# Altium schematic symbol library AltiumLibraryDDT.SchLib: 81 symbols
Pins are listed as number, name and electrical type; pins without a type are passive.

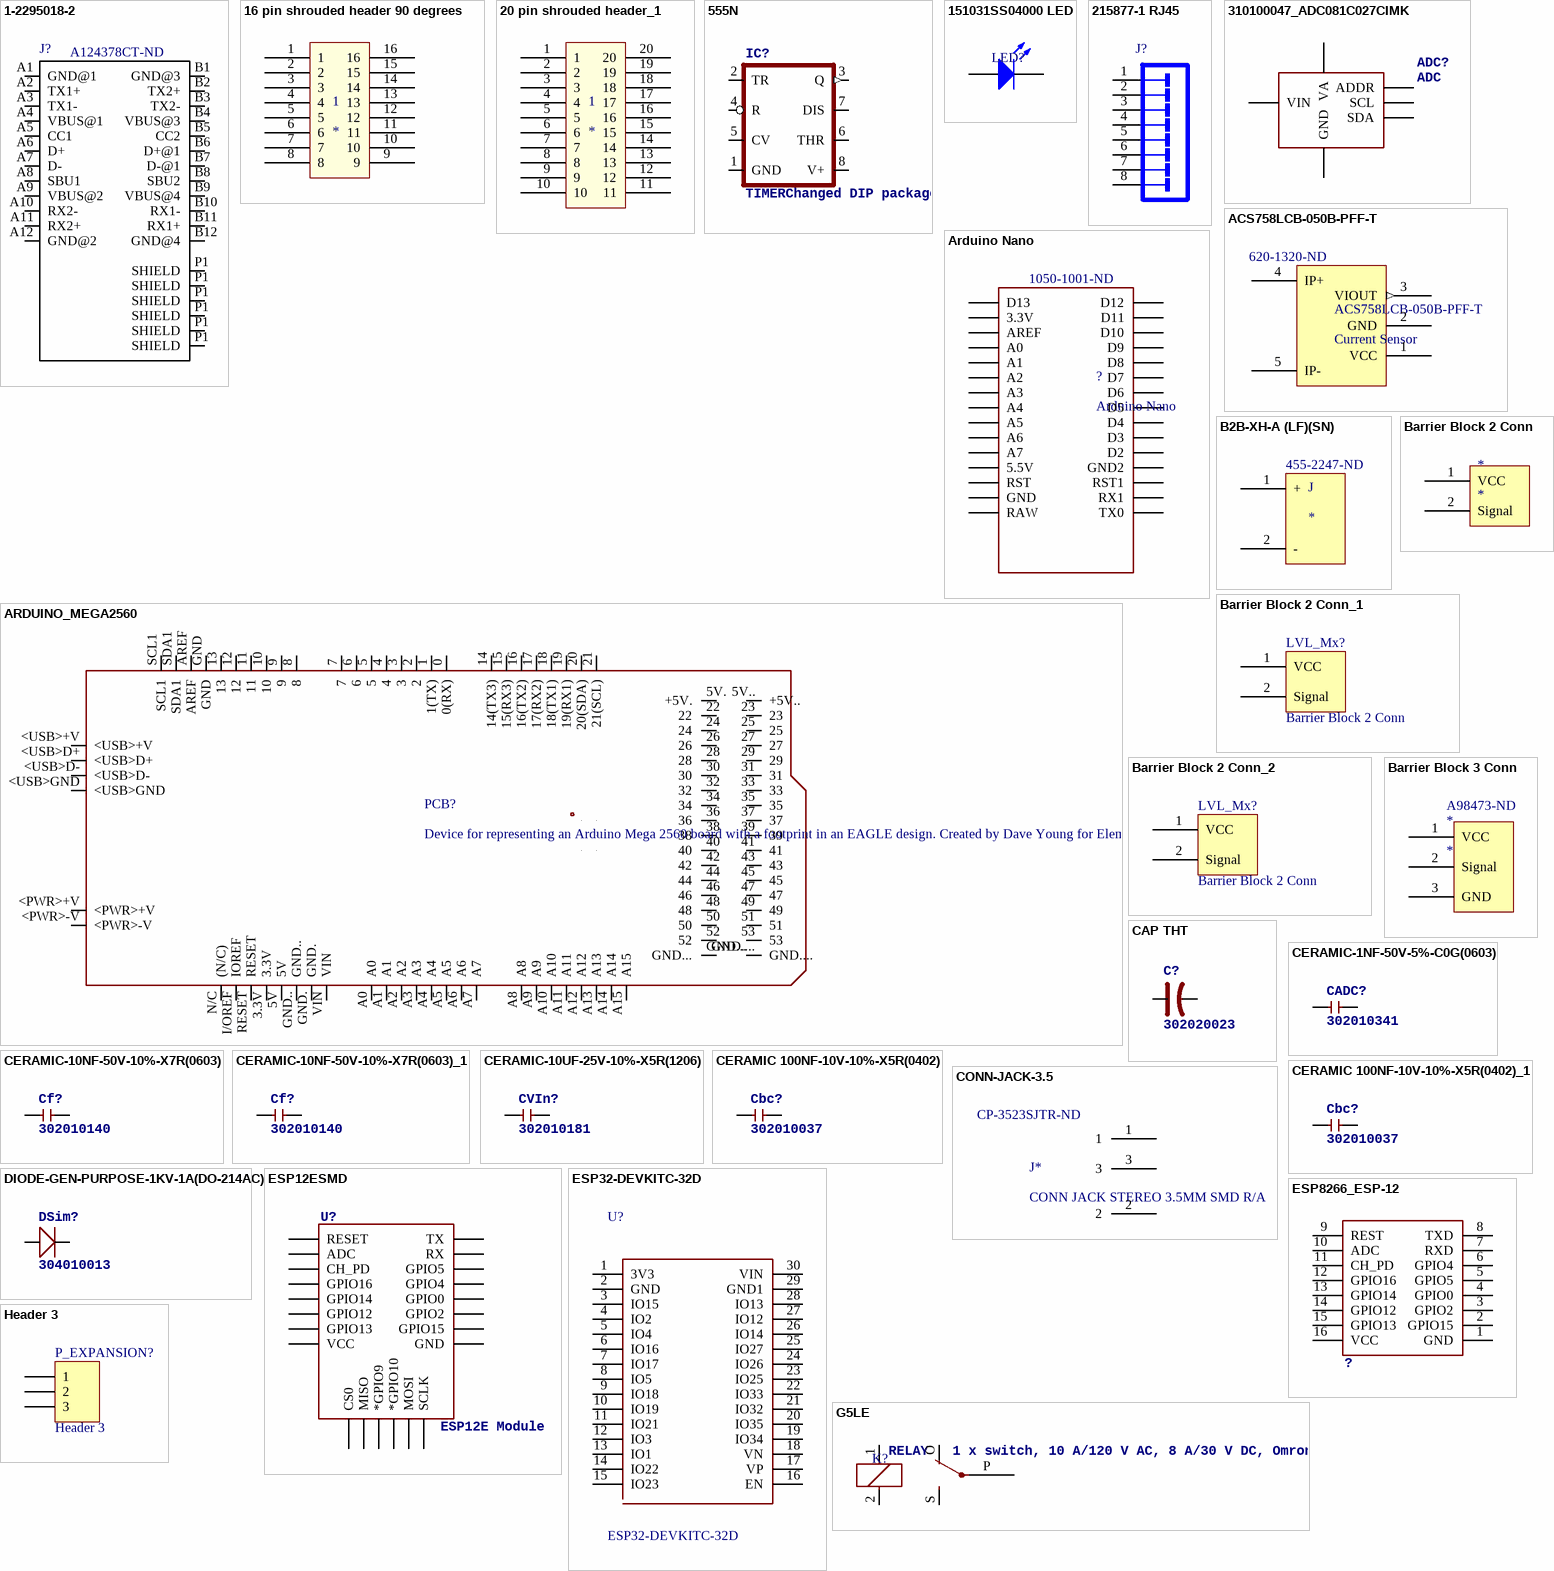
[diagram p0: symbols 1-2295018-2 to Header 3]

## 1-2295018-2
designator J?, comment Supplier Part Number 1: A124378CT-ND  (hidden comment: 1-2295018-2 USB C Connector)
Conn USB Type C RCP 12 POS Solder RA SMD 12 Terminal 1 Port T/R; MF: TE Connectivity; Availability: Unavailable; SnapEDA_Link: https://www.snapeda.com/parts/1-2295018-2/TE%20Connectivity%20AMP%20Connectors/view-part/?ref=snap; Price: None; TE_purchase_URL: https://www.te.com/usa-en/product-1-2295018-2.html?te_bu=Cor&te_type=disp&te_campaign=seda_glo_cor-seda-global-disp-prtnr-fy19-seda-model-bom-cta_sma-317_1&elqCampaignId=32493; Package: None; MP: 1-2295018-2; Value: *; Supplier 1: Digi-Key
footprint TE_1-2295018-2_1-2295018-2(Primary)
pins: A1 GND@1, A2 TX1+, A3 TX1-, A4 VBUS@1, A5 CC1, A6 D+, A7 D-, A8 SBU1, A9 VBUS@2, A10 RX2-, A11 RX2+, A12 GND@2, B1 GND@3, B2 TX2+, B3 TX2-, B4 VBUS@3, B5 CC2, B6 D+@1, B7 D-@1, B8 SBU2, B9 VBUS@4, B10 RX1-, B11 RX1+, B12 GND@4, P1 SHIELD, P1 SHIELD, P1 SHIELD, P1 SHIELD, P1 SHIELD, P1 SHIELD

## 16 pin shrouded header 90 degrees
designator 1
footprint 16 pin shrouded box 90 degrees
pins: 1, 2, 3, 4, 5, 6, 7, 8, 9, 10, 11, 12, 13, 14, 15, 16

## 20 pin shrouded header_1
designator 1
footprint 20 Pin Box Header .1"Sp Straight
pins: 1, 2, 3, 4, 5, 6, 7, 8, 9, 10, 11, 12, 13, 14, 15, 16, 17, 18, 19, 20

## 555N
designator IC?, comment TIMERChanged DIP package to have round (not oval) pin pads    http://www.ladyada.net/library/pcb/eaglelibrary.html
footprint DIL08-ROUND
pins: 1 GND (power), 2 TR, 3 Q (out), 4 R, 5 CV, 6 THR, 7 DIS, 8 V+ (power)

## 151031SS04000 LED
designator LED?
THT LED round mono-color color lens, WL-TMRW, Super Red; PartNumber: 151031SS04000; PackageReference: Type 3mm; Emitting color: Super Red; ComponentLink1Description: Manufacturer URL; ComponentLink1URL: http://www.we-online.com; ComponentLink2Description: Datasheet; ComponentLink2URL: http://katalog.we-online.de/pbs/datasheet/7448042001.pdfhttp://katalog.we-online.de/pbs/datasheet/7448042001.pdfhttp://katalog.we-online.de/pbs/datasheet/7448042001.pdfhttp://katalog.we-online.de/pbs/datasheet/151031SS04000.pdf
footprint LED Type 3mm (THT, LED-3mm, 2pin- Body 4.15mm(max))
pins: 1 K, 2 A

## 215877-1 RJ45
designator J?
Female Header, Pitch 2.54 mm, 2 x 4 Position, Height 11.5 mm, Tail Length 3 mm, -40 to 105 degC, RoHS, Tape and Reel; Dynamic Catalog: Modular Jacks; Other Names: A105009CT; Number of Ports: 1; Connector Type: Jack; LED Color: Does Not Contain LED; Ratings: Cat3; Number of Positions/Contacts: 8p8c (RJ45, Ethernet); 3D Model: 215877-1.pdf; Tab Direction: Down; Shielding: Unshielded; DatasheetVersion: Rev. AE; PackageReference: THD; Supplier 1: Digi-Key; Supplier Part Number 1: A105009TR-ND; Supplier 2: Digi-Key; Supplier Part Number 2: A105009CT-ND; Features: Board Lock; Packaging: Cut Tape (CT); Termination: Solder; Family: Modular Connectors - Jacks; Contact Finish: Gold; Housing Material: Polybutylene Terephthalate (PBT); RoHS Information: 215877-1 Statement of Compliance; Mounting Type: Through Hole; Contact Material: Phosphor Bronze; Orientation: 90° Angle (Right); Standard Package: 1; Number of Rows: 1; Category: Connectors, Interconnects; ComponentLink1Description: Manufacturer URL; ComponentLink1URL: http://www.te.com; ComponentLink2Description: Datasheet; ComponentLink2URL: https://datasheet.ciiva.com/16310/215877-1-16310656.pdf
footprint TECO-215877-1_V_RJ45 (TH, 8-Leads, Body 18.1x15.2mm RJ45)
pins: 1, 2, 3, 4, 5, 6, 7, 8

## 310100047_ADC081C027CIMK
designator ADC?, comment ADC
footprint SOT236
pins: 1 VA (power), 2 GND (power), 3 VIN, 4 ADDR, 5 SCL, 6 SDA

## ACS758LCB-050B-PFF-T
designator ACS758LCB-050B-PFF-T, comment Current Sensor  Supplier Part Number 1: 620-1320-ND
Thermally Enhanced, Fully Integrated, Hall Effect-Based  Linear Current Sensor IC with 100 µΩ Current Conductor; Manufacturer: Allegro MicroSystems, LLC; Manufacturer Part Number: ACS758LCB-050B-PFF-T; For Measuring: AC/DC; Sensor Type: Hall Effect, Open Loop; Current - Sensing: 50A; Number of Channels: 1; Output: Ratiometric, Voltage; Sensitivity: 40mV/A; Frequency: DC ~ 120kHz; Linearity: ±1%; Accuracy: ±2%; Voltage - Supply: 3 V ~ 5.5 V; Response Time: 4µs; Current - Supply (Max): 13.5mA; Polarization: Bidirectional; Supplier 1: Digi-Key; RoHS: RoHS Compliant; Category: Sensors, Transducers; Stock 1: 7507; Pricing 1: 1=7.98, 5=7, 10=6.3, 25=5.6, 50=5.18, 100=4.48, 500=4.2, 1000=3.92, 5000=3.724 (USD); Packaging: Tube; Operating Temperature: -40°C ~ 150°C; Mounting Type: Through Hole; Package / Case: 5-CB Formed Leads, PFF; ComponentLink1URL: http://www.allegromicro.com/en/Products/Part_Numbers/0758/0758.pdf; ComponentLink1Description: http://www.allegromicro.com/en/Products/Part_Numbers/0758/0758.pdf
footprint ACS758LCB-050B-PFF-T
pins: 1 VCC (power), 2 GND (power), 3 VIOUT (out), 4 IP+ (power), 5 IP- (power)

## Arduino Nano
designator ?  Supplier Part Number 1: 1050-1001-ND
Manufacturer Part Number: A000005; Board Type: Evaluation Platform; Core Processor: AVR; For Use With/Related Products: ATmega328; Contents: Board(s); Supplier 1: Digi-Key; Manufacturer: Arduino; RoHS: RoHS Compliant; Category: Programmers, Development Systems; Stock 1: 0; Pricing 1: 1=0 (USD); Type: MCU 8-Bit; Operating System: -; Platform: Arduino Nano; Mounting Type: Fixed; ComponentLink1URL: http://media.digikey.com/pdf/Data%20Sheets/Arduino%20PDFs/A000005.pdf; ComponentLink1Description: http://media.digikey.com/pdf/Data%20Sheets/Arduino%20PDFs/A000005.pdf
footprint Arduino Nano (Arduino Nano, ATMEGA328)
pins: 3.3V, 5V 5.5V, A0, A1, A2, A3, A4, A5, A6, A7, AREF, D2, D3, D4, D5, D6, D7, D8, D9, D10, D11, D12, D13, GND, GND1 GND2, RAW, RST, RST1, RX1, TX0

## ARDUINO_MEGA2560
designator PCB?, comment Device for representing an Arduino Mega 2560 board with a footprint in an EAGLE design. Created by Dave Young for Element14. More EAGLE documentation at: http://www.element14.com/community/community/knode/cadsoft_eagle
footprint ARDUINO_MEGA2560
pins: 0 0(RX), 1 1(TX), 2, 3, 3.3V, 4, 5, 5V, 5V. +5V., 5V.. +5V.., 6, 7, 8, 9, 10, 11, 12, 13, 14 14(TX3), 15 15(RX3), 16 16(TX2), 17 17(RX2), 18 18(TX1), 19 19(RX1), 20 20(SDA), 21 21(SCL), 22, 23, 24, 25, 26, 27, 28, 29, 30, 31, 32, 33, 34, 35, 36, 37, 38, 39, 40, 41, 42, 43, 44, 45, 46, 47, 48, 49, 50, 51, 52, 53, +5V_, <PWR>+V, <PWR>-V, <USB>+V, <USB>D+, <USB>D-, <USB>GND, A0, A1, A2, A3, A4, A5, A6, A7, A8, A9, A10, A11, A12, A13, A14, A15, AREF, GND, GND., GND.., GND..., GND...., GND__, I/OREF IOREF, MISO, MOSI, N/C (N/C), RESET, RESET., SCK, SCL1, SDA1, VIN

## B2B-XH-A (LF)(SN)
designator J  Supplier Part Number 1: 455-2247-ND
Supplier 1: Digi-Key
footprint JST 2 PIN (BATTERY IN)
pins: 1 +, 2 -

## Barrier Block 2 Conn
designator *
footprint 2 Barrier Block - duplicate (A98472-ND)
pins: 1 VCC, 2 Signal

## Barrier Block 2 Conn_1
designator LVL_Mx?, comment Barrier Block 2 Conn
footprint 2 Barrier Block - duplicate (A98472-ND)
footprint 2 Barrier Block 5mm
pins: 1 VCC, 2 Signal

## Barrier Block 2 Conn_2
designator LVL_Mx?, comment Barrier Block 2 Conn
footprint 2 Barrier Block - duplicate (A98472-ND)
footprint 2 Barrier Block 5mm
pins: 1 VCC, 2 Signal

## Barrier Block 3 Conn
designator *  Supplier Part Number 1: A98473-ND
Supplier 1: Digi-Key
footprint 3 Barrier Block (A98473-ND)
pins: 1 VCC, 2 Signal, 3 GND

## CAP THT
designator C?, comment 302020023
footprint CAP TH
pins: 1 +, 2 -

## CERAMIC-1NF-50V-5%-C0G(0603)
designator CADC?, comment 302010341
MPN: GRM1885C1H102JA01D
footprint C0603
pins: 1, 2

## CERAMIC-10NF-50V-10%-X7R(0603)
designator Cf?, comment 302010140
MPN: CC0603KRX7R9BB103
footprint C0603
pins: 1, 2

## CERAMIC-10NF-50V-10%-X7R(0603)_1
designator Cf?, comment 302010140
MPN: CC0603KRX7R9BB103
footprint C0603
pins: 1, 2

## CERAMIC-10UF-25V-10%-X5R(1206)
designator CVIn?, comment 302010181
MPN: CC1206KKX5R8BB106
footprint C1206
pins: 1, 2

## CERAMIC 100NF-10V-10%-X5R(0402)
designator Cbc?, comment 302010037
MPN: CC0402KRX5R6BB104
footprint C0402
pins: 1, 2

## CERAMIC 100NF-10V-10%-X5R(0402)_1
designator Cbc?, comment 302010037
MPN: CC0402KRX5R6BB104
footprint C0402
pins: 1, 2

## CONN-JACK-3.5
designator J*, comment CONN JACK STEREO 3.5MM SMD R/A  Supplier Part Number 1: CP-3523SJTR-ND
3.50mm (0.141", 1/8", Mini Plug) - Headphone Phone Jack Stereo Connector Solder - SJ-3523-SMT; ComponentLink1Description: Digikey; ComponentLink1URL: https://www.digikey.com/product-detail/en/cui-inc/SJ-3523-SMT-TR/CP-3523SJTR-ND/281297; Supplier 1: Digi-Key
footprint SJ-3523-SMT-TR (3.50mm (0.141", 1/8", Mini Plug) - Headphone Phone Jack Stereo Connector Solder CP-3523SJTR-ND)
pins: 1, 2, 3

## DIODE-GEN-PURPOSE-1KV-1A(DO-214AC)
designator DSim?, comment 304010013
MPN: 1N4007
footprint DO-214AC
pins: 1 +, 2 -

## ESP12ESMD
designator U?, comment ESP12E Module
footprint ESP12E-SMD
pins: ADC, CH_PD, CS0, GND, GPIO0, GPIO2, GPIO4, GPIO5, GPIO9 *GPIO9, GPIO10 *GPIO10, GPIO12, GPIO13, GPIO14, GPIO15, GPIO16, MISO, MOSI, RESET, RXD0 RX, SCLK, TXD0 TX, VCC

## ESP32-DEVKITC-32D
designator U?
Eval Board For Esp-Wroom-32; MF: Espressif Systems; Availability: Unavailable; Package: None; SnapEDA_Link: https://www.snapeda.com/parts/ESP32-DEVKITC-32D/Espressif%20Systems/view-part/?ref=snap; MP: ESP32-DEVKITC-32D; Price: None; Value: *
footprint MODULE_ESP32-DEVKITV1
pins: 1 3V3, 2 GND, 3 IO15, 4 IO2, 5 IO4, 6 IO16, 7 IO17, 8 IO5, 9 IO18, 10 IO19, 11 IO21, 12 IO3, 13 IO1, 14 IO22, 15 IO23, 16 EN, 17 VP, 18 VN, 19 IO34, 20 IO35, 21 IO32, 22 IO33, 23 IO25, 24 IO26, 25 IO27, 26 IO14, 27 IO12, 28 IO13, 29 GND1, 30 VIN

## ESP8266_ESP-12
designator ?
footprint ESP8266-ESP12
pins: 1 GND, 2 GPIO15, 3 GPIO2, 4 GPIO0, 5 GPIO5, 6 GPIO4, 7 RXD, 8 TXD, 9 REST, 10 ADC, 11 CH_PD, 12 GPIO16, 13 GPIO14, 14 GPIO12, 15 GPIO13, 16 VCC

## G5LE
designator K?, comment RELAY   1 x switch, 10 A/120 V AC, 8 A/30 V DC, Omron
footprint G5LE
pins: 1, 2, O, P Common, S

## Header 3
designator P_EXPANSION?
Header, 3-Pin; LatestRevisionDate: 17-Jul-2002; LatestRevisionNote: Re-released for DXP Platform.; Publisher: Altium Limited
footprint HDR1X3 (Connector; Header; 3 Position)
signal-integrity model Connector
pins: 1, 2, 3

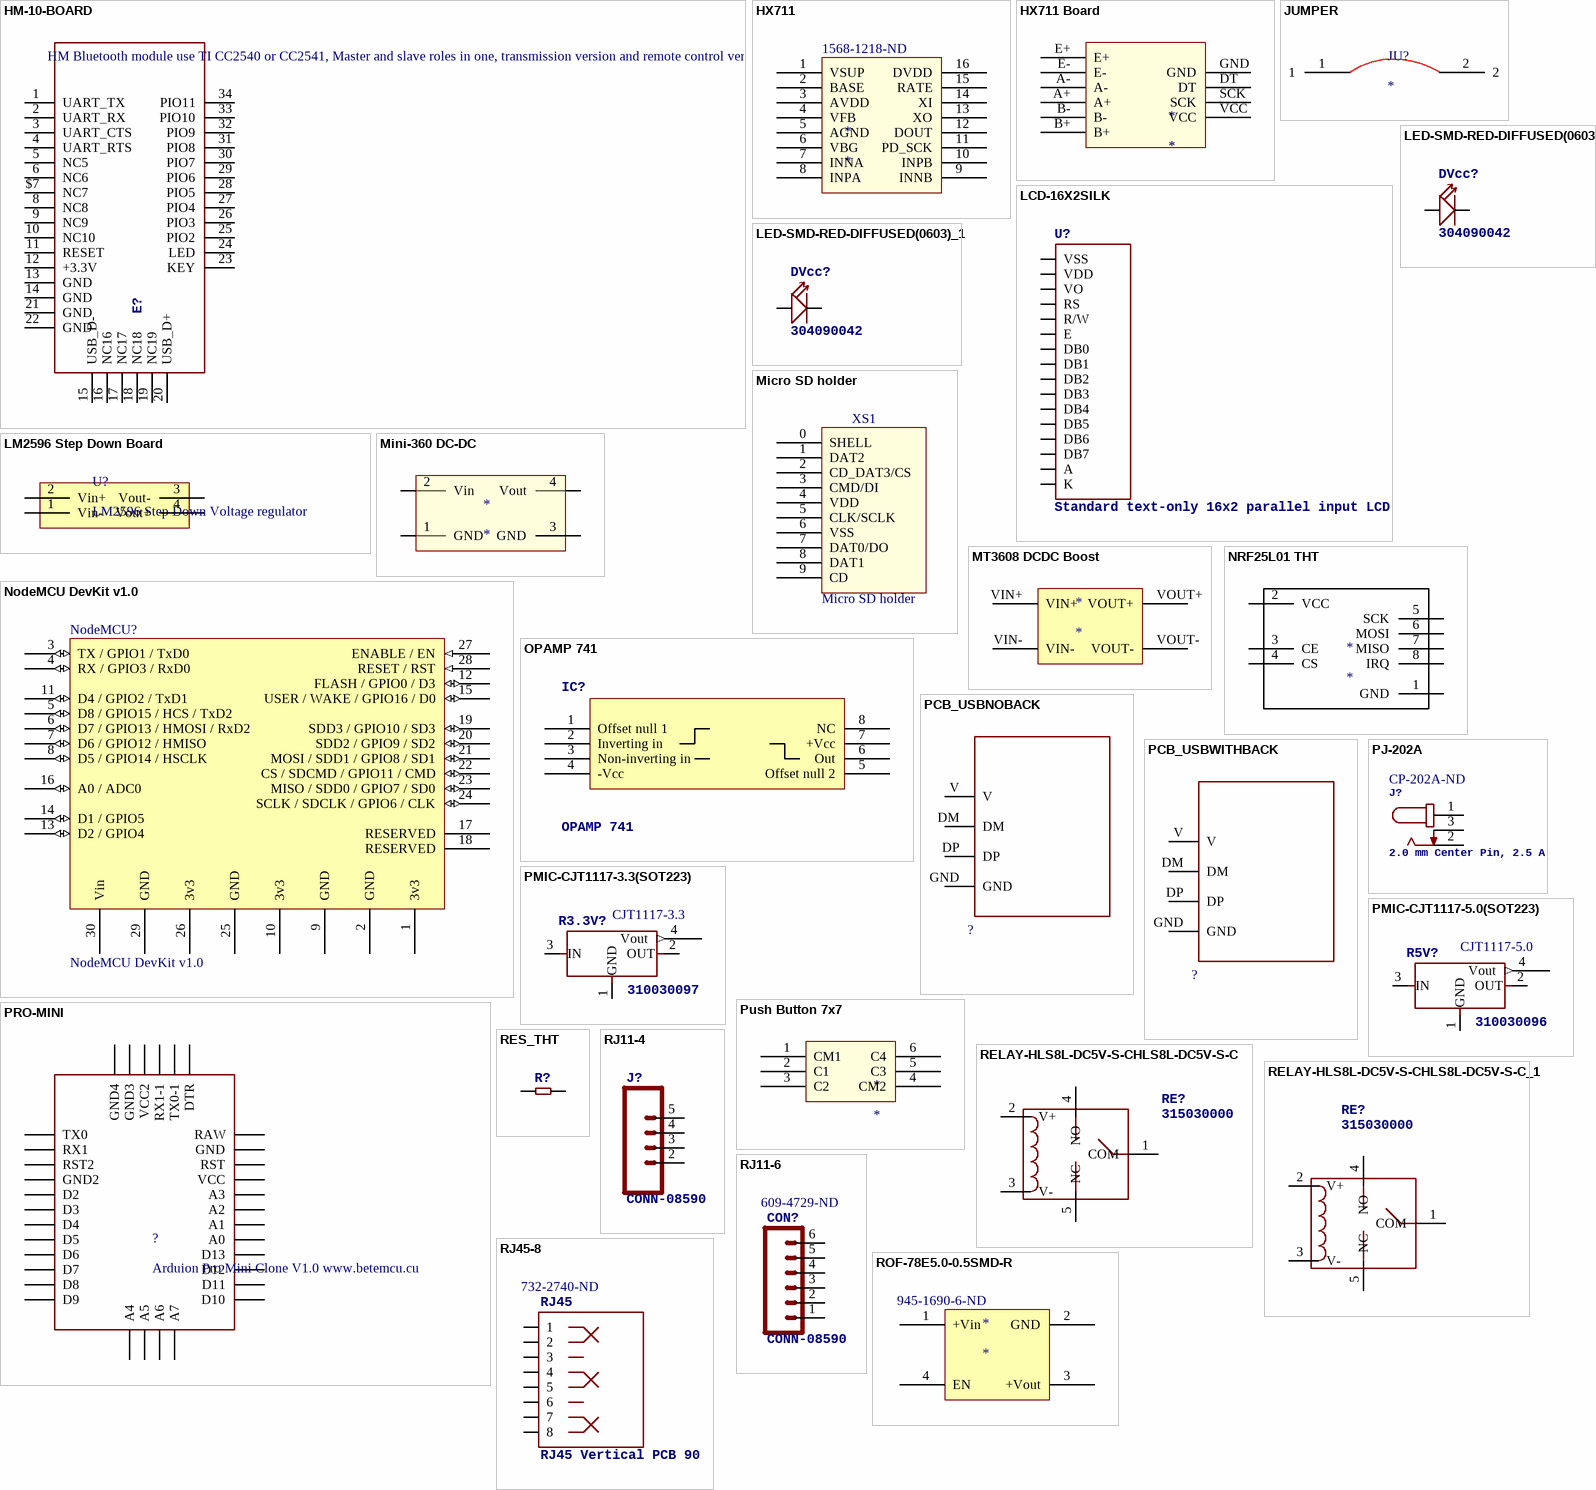
[diagram p1: symbols HM-10-BOARD to ROF-78E5.0-0.5SMD-R]

## HM-10-BOARD
designator E?, comment HM Bluetooth module use TI CC2540 or CC2541, Master and slave roles in one, transmission version and remote control version and PIO state acquisition functions in one, Support the AT command modify module parameters, Convenient and flexible.
footprint 26.9X13X2.2_BOARD
pins: 1 UART_TX, 2 UART_RX, 3 UART_CTS, 4 UART_RTS, 5 NC5, 6 NC6, 8 NC8, 9 NC9, 10 NC10, 11 RESET, 12 +3.3V, 13 GND, 14 GND, 15 USB_D-, 16 NC16, 17 NC17, 18 NC18, 19 NC19, 20 USB_D+, 21 GND, 22 GND, 23 KEY, 24 LED, 25 PIO2, 26 PIO3, 27 PIO4, 28 PIO5, 29 PIO6, 30 PIO7, 31 PIO8, 32 PIO9, 33 PIO10, 34 PIO11, $7 NC7

## HX711
designator *  Supplier Part Number 1: 1568-1218-ND
Supplier 1: Digi-Key
footprint SOP16L
pins: 1 VSUP, 2 BASE, 3 AVDD, 4 VFB, 5 AGND, 6 VBG, 7 INNA, 8 INPA, 9 INNB, 10 INPB, 11 PD_SCK, 12 DOUT, 13 XO, 14 XI, 15 RATE, 16 DVDD

## HX711 Board
designator *
footprint HX711 Board
pins: A+, A-, B+, B-, DT, E+, E-, GND, SCK, VCC

## JUMPER
designator JU?
footprint JUMPER 200mil (JUMPER for one layer PCB)
footprint JUMPER 400mil (JUMPER for one layer PCB)
footprint JUMPER 600mil (JUMPER for one layer PCB)
pins: 1, 2

## LCD-16X2SILK
designator U?, comment Standard text-only 16x2 parallel input LCD
footprint LCD-16X2
pins: 1 VSS (power), 2 VDD (power), 3 VO, 4 RS, 5 R/W, 6 E, 7 DB0, 8 DB1, 9 DB2, 10 DB3, 11 DB4, 12 DB5, 13 DB6, 14 DB7, 15 A (power), 16 K (power)

## LED-SMD-RED-DIFFUSED(0603)
designator DVcc?, comment 304090042
MPN: 19-217-R6C-AL1M2VY-3T
footprint LED-0603
pins: +, -

## LED-SMD-RED-DIFFUSED(0603)_1
designator DVcc?, comment 304090042
MPN: 19-217-R6C-AL1M2VY-3T
footprint LED-0603
pins: +, -

## LM2596 Step Down Board
designator U?, comment LM2596 Step Down Voltage regulator
footprint LM2596 DC-DC
pins: 1 Vin-, 2 Vin+, 3 Vout-, 4 Vout+

## Micro SD holder
designator XS1
footprint 112C-TBAR-R02
pins: 0 SHELL, 1 DAT2, 2 CD_DAT3/CS, 3 CMD/DI, 4 VDD, 5 CLK/SCLK, 6 VSS, 7 DAT0/DO, 8 DAT1, 9 CD

## Mini-360 DC-DC
designator *
footprint Mini-360 (DC-DC Power source)
pins: 1 GND (power), 2 Vin (power), 3 GND (power), 4 Vout (power)

## MT3608 DCDC Boost
designator *
footprint MT3608 (Step Up board)
pins: VIN+, VIN-, VOUT+, VOUT-

## NodeMCU DevKit v1.0
designator NodeMCU?
footprint NODEMCU
pins: 1 3v3 (power), 2 GND (power), 3 TX / GPIO1 / TxD0 (io), 4 RX / GPIO3 / RxD0 (io), 5 D8 / GPIO15 / HCS / TxD2 (io), 6 D7 / GPIO13 / HMOSI / RxD2 (io), 7 D6 / GPIO12 / HMISO (io), 8 D5 / GPIO14 / HSCLK (io), 9 GND (power), 10 3v3 (power), 11 D4 / GPIO2 / TxD1 (io), 12 FLASH / GPIO0 / D3 (io), 13 D2 / GPIO4 (io), 14 D1 / GPIO5 (io), 15 USER / WAKE / GPIO16 / D0 (io), 16 A0 / ADC0 (io), 17 RESERVED, 18 RESERVED, 19 SDD3 / GPIO10 / SD3 (io), 20 SDD2 / GPIO9 / SD2 (io), 21 MOSI / SDD1 / GPIO8 / SD1 (io), 22 CS / SDCMD / GPIO11 / CMD (io), 23 MISO / SDD0 / GPIO7 / SD0 (io), 24 SCLK / SDCLK / GPIO6 / CLK (io), 25 GND (power), 26 3v3 (power), 27 ENABLE / EN (in), 28 RESET / RST (in), 29 GND, 30 Vin

## NRF25L01 THT
designator *
footprint NRF25L01 THT
pins: 1 GND (power), 2 VCC (power), 3 CE, 4 CS, 5 SCK, 6 MOSI, 7 MISO, 8 IRQ

## OPAMP 741
designator IC?
footprint DIL08-ROUND
footprint DIL08-ROUND
pins: 1 Offset null 1, 2 Inverting in, 3 Non-inverting in, 4 -Vcc (power), 5 Offset null 2, 6 Out, 7 +Vcc (power), 8 NC

## PCB_USBNOBACK
designator ?
footprint PCB_USB_WBACK
pins: DM, DP, GND, V

## PCB_USBWITHBACK
designator ?
footprint PCB_USB_WBACK
pins: DM, DP, GND, V

## PJ-202A
designator J?, comment 2.0 mm Center Pin, 2.5 A, Right Angle, Through Hole, Kinked Pins, Dc Power Jack Connector  Supplier Part Number 1: CP-202A-ND
GateName_1: G$1; SymbolName_1: PJ-202A; MF: CUI Inc.; LibraryName: PJ-202A; DeviceSetName: PJ-202A; Package: CUI_PJ-202A; MP: PJ-202A; Availability: Unavailable; Package: None; Price: None; CUI_purchase_URL: https://www.cui.com/product/interconnect/dc-power-connectors/jacks/2.0-mm-center-pin/pj-202a?utm_source=snapeda.com&utm_medium=referral&utm_campaign=snapedaBOM; Supplier 1: Digi-Key
footprint CUI_PJ-202A (2.0 mm Center Pin, 2.5 A, Right Angle, Through Hole, Kinked Pins, Dc Power Jack Connector)
pins: 1, 2, 3

## PMIC-CJT1117-3.3(SOT223)
designator R3.3V?, comment 310030097  MPN: CJT1117-3.3
footprint SOT-223
pins: 1 GND, 2 OUT, 3 IN, 4 Vout (out)

## PMIC-CJT1117-5.0(SOT223)
designator R5V?, comment 310030096  MPN: CJT1117-5.0
footprint SOT-223
pins: 1 GND, 2 OUT, 3 IN, 4 Vout (out)

## PRO-MINI
designator ?, comment Arduion Pro Mini Clone V1.0 www.betemcu.cu
footprint PRO-MINI
pins: A0, A1, A2, A3, A4, A5, A6, A7, D2, D3, D4, D5, D6, D7, D8, D9, D10, D11, D12, D13, DTR, GND, GND1 GND2, GND2 GND4, GND3, RAW (power), RST, RST1 RST2, RX1, RX1-1, TX0, TX0-1, VCC, VCC1 VCC2

## Push Button 7x7
designator *
footprint Push Button 7x7 (7x7 SELF-LOCK BUTTON - 2mm DIP)
pins: 1 CM1, 2 C1, 3 C2, 4 CM2, 5 C3, 6 C4

## RELAY-HLS8L-DC5V-S-CHLS8L-DC5V-S-C
designator RE?, comment 315030000
footprint REY5-19.0X15.0X15.0MM
pins: 1 COM, 2 V+, 3 V-, 4 NO, 5 NC

## RELAY-HLS8L-DC5V-S-CHLS8L-DC5V-S-C_1
designator RE?, comment 315030000
footprint REY5-19.0X15.0X15.0MM
pins: 1 COM, 2 V+, 3 V-, 4 NO, 5 NC

## RES_THT
designator R?
footprint Res 1/4w
pins: 1, 2

## RJ11-4
designator J?, comment CONN-08590
RJ11 4P4C; SF_ID: PRT-00132; PROD_ID: CONN-08590
footprint RJ11-6 - 4pin (54601-906WPLF CONN MOD JACK 6P6C R/A UNSHLD)
pins: 2, 3, 4, 5

## RJ11-6
designator CON?, comment CONN-08590  Supplier Part Number 1: 609-4729-ND
RJ11 6P6C; SF_ID: PRT-00132; PROD_ID: CONN-08590; Supplier 1: Digi-Key
footprint RJ11-6
pins: 1, 2, 3, 4, 5, 6

## RJ45-8
designator RJ45, comment RJ45 Vertical PCB 90  Supplier Part Number 1: 732-2740-ND
Wurth Electronics 615008138021; PROD_ID: 615008138021; Supplier 1: Digi-Key
footprint RJ45-8
pins: 1, 2, 3, 4, 5, 6, 7, 8

## ROF-78E5.0-0.5SMD-R
designator *  Supplier Part Number 1: 945-1690-6-ND
Manufacturer: Recom Power; Manufacturer Part Number: ROF-78E5.0-0.5SMD-R; Power (Watts) - Manufacture Series: 3W; Number of Outputs: 1; Voltage - Input (Min): 9V; Voltage - Input (Max): 36V; Voltage - Output 1: 5V; Current - Output (Max): 500mA; Efficiency: 87%; Supplier 1: Digi-Key; RoHS: RoHS Compliant; Category: Power Supplies - Board Mount; Stock 1: 3805; Pricing 1: 1=3.38, 5=3.338, 10=3.29, 25=3.196, 50=3.102, 100=3.008, 250=2.914 (USD); Packaging: Digi-Reel®; Type: Non-Isolated PoL Module; Voltage - Output 2: -; Voltage - Output 3: -; Voltage - Isolation: -; Applications: ITE (Commercial); Features: SCP; Mounting Type: Surface Mount; Package / Case: 4-SMD Module; Size / Dimension: 0.53" L x 0.49" W x 0.18" H (13.5mm x 12.5mm x 4.5mm); Operating Temperature: -40°C ~ 75°C; Power (Watts) - Max: 3W; ComponentLink1URL: http://www.recom-power.com/pdf/Innoline/ROF-78Exx-0.5.pdf; ComponentLink1Description: http://www.recom-power.com/pdf/Innoline/ROF-78Exx-0.5.pdf
footprint ROF-78E5.0-0.5SMD-R (SMD Switching Regulator)
pins: 1 +Vin (power), 2 GND (power), 3 +Vout (power), 4 EN (power)

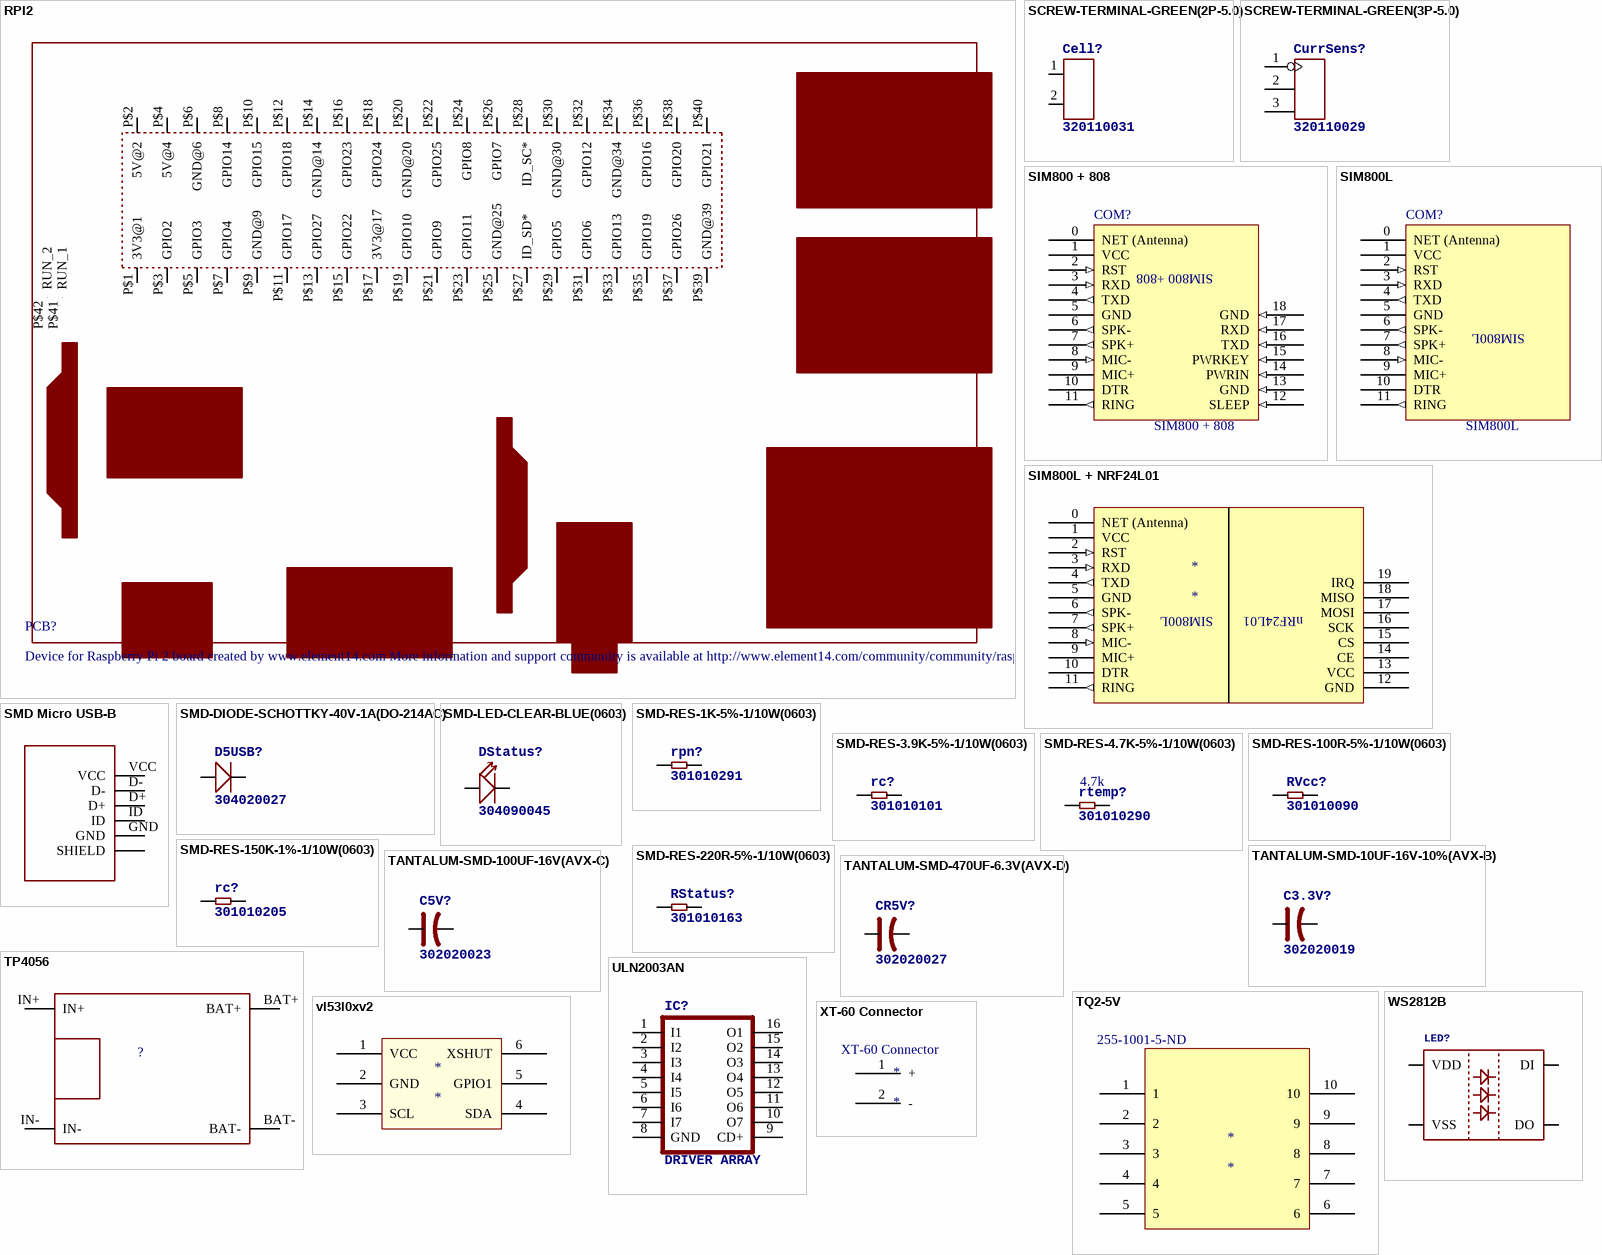
[diagram p2: symbols RPI2 to XT-60 Connector]

## RPI2
designator PCB?, comment Device for Raspberry Pi 2 board created by www.element14.com More information and support community is available at http://www.element14.com/community/community/raspberry-pi/raspberrypi2
footprint RPI2
pins: P$1 3V3@1, P$2 5V@2, P$3 GPIO2, P$4 5V@4, P$5 GPIO3, P$6 GND@6, P$7 GPIO4, P$8 GPIO14, P$9 GND@9, P$10 GPIO15, P$11 GPIO17, P$12 GPIO18, P$13 GPIO27, P$14 GND@14, P$15 GPIO22, P$16 GPIO23, P$17 3V3@17, P$18 GPIO24, P$19 GPIO10, P$20 GND@20, P$21 GPIO9, P$22 GPIO25, P$23 GPIO11, P$24 GPIO8, P$25 GND@25, P$26 GPIO7, P$27 ID_SD*, P$28 ID_SC*, P$29 GPIO5, P$30 GND@30, P$31 GPIO6, P$32 GPIO12, P$33 GPIO13, P$34 GND@34, P$35 GPIO19, P$36 GPIO16, P$37 GPIO26, P$38 GPIO20, P$39 GND@39, P$40 GPIO21, P$41 RUN_1, P$42 RUN_2

## SCREW-TERMINAL-GREEN(2P-5.0)
designator Cell?, comment 320110031
footprint H2-5.0-10.5X8.0MM
pins: 1, 2

## SCREW-TERMINAL-GREEN(3P-5.0)
designator CurrSens?, comment 320110029
footprint H3-5.0-15.5X8.0MM
pins: 1 P$1, 2 P$2, 3 P$3

## SIM800 + 808
designator COM?
footprint SIM800 + bk-808
pins: 0 NET (Antenna) (hiz), 1 VCC (power), 2 RST (in), 3 RXD (in), 4 TXD (out), 5 GND (hiz), 6 SPK- (out), 7 SPK+ (out), 8 MIC- (in), 9 MIC+ (hiz), 10 DTR (power), 11 RING (out), 12 SLEEP (in), 13 GND (in), 14 PWRIN (in), 15 PWRKEY (in), 16 TXD (in), 17 RXD (in), 18 GND (in)
text: SIM800 +808

## SIM800L
designator COM?
footprint SIM800L
pins: 0 NET (Antenna) (hiz), 1 VCC (power), 2 RST (in), 3 RXD (in), 4 TXD (out), 5 GND (hiz), 6 SPK- (out), 7 SPK+ (out), 8 MIC- (in), 9 MIC+ (hiz), 10 DTR (power), 11 RING (out)

## SIM800L + NRF24L01
designator *
footprint SIM800L+NRF24L01
pins: 0 NET (Antenna) (hiz), 1 VCC (power), 2 RST (in), 3 RXD (in), 4 TXD (out), 5 GND (hiz), 6 SPK- (out), 7 SPK+ (out), 8 MIC- (in), 9 MIC+ (hiz), 10 DTR (power), 11 RING (out), 12 GND (power), 13 VCC (power), 14 CE (power), 15 CS (power), 16 SCK (power), 17 MOSI (power), 18 MISO (power), 19 IRQ (power)
text: SIM800L; nRF24L01

## SMD Micro USB-B
designator USB*, comment 320010003  (value not drawn)
10118193-0001LF - 320010003; GateName_1: G$1; SymbolName_1: 10118193-0001LF; LibraryName: eagle_usb; DeviceSetName: 10118193-0001LF; Package: 10118193-0001LF
footprint 10118193-0001LF
pins: D+, D-, GND, ID, SHIELD$1 SHIELD$2 SHIELD$3 SHIELD$4 SHIELD, VCC

## SMD-DIODE-SCHOTTKY-40V-1A(DO-214AC)
designator D5USB?, comment 304020027
MPN: 1N5819
footprint DO-214AC
pins: 1 +, 2 -

## SMD-LED-CLEAR-BLUE(0603)
designator DStatus?, comment 304090045
MPN: 19-217-BHC-ZL1M2RY-3T
footprint LED-0603
pins: +, -

## SMD-RES-1K-5%-1/10W(0603)
designator rpn?, comment 301010291
1k; MPN: RC0603JR-071KL
footprint R0603
pins: 1, 2

## SMD-RES-3.9K-5%-1/10W(0603)
designator rc?, comment 301010101
MPN: RC0603JR-073K9L
footprint R0603
pins: 1, 2

## SMD-RES-4.7K-5%-1/10W(0603)
designator rtemp?, comment 301010290
MPN: RC0603JR-074K7L
footprint R0603
pins: 1, 2
text: 4.7k

## SMD-RES-100R-5%-1/10W(0603)
designator RVcc?, comment 301010090
MPN: RC0603JR-07100RL
footprint R0603
pins: 1, 2

## SMD-RES-150K-1%-1/10W(0603)
designator rc?, comment 301010205
MPN: RC0603FR-07150KL
footprint R0603
pins: 1, 2

## SMD-RES-220R-5%-1/10W(0603)
designator RStatus?, comment 301010163
MPN: RC0603JR-07220RL
footprint R0603
pins: 1, 2

## TANTALUM-SMD-10UF-16V-10%(AVX-B)
designator C3.3V?, comment 302020019
MPN: TAJB106K016RNJ
footprint AVX-B
pins: +, -

## TANTALUM-SMD-100UF-16V(AVX-C)
designator C5V?, comment 302020023
MPN: TAJC107K016RNJ
footprint AVX-C
pins: +, -

## TANTALUM-SMD-470UF-6.3V(AVX-D)
designator CR5V?, comment 302020027
MPN: TAJD477*006#NJ
footprint AVX-D
pins: +, -

## TP4056
designator ?
footprint TP4056 Lipo Charger
pins: BAT+, BAT-, IN+, IN-

## TQ2-5V
designator *  Supplier Part Number 1: 255-1001-5-ND
Supplier 1: Digi-Key
pins: 1, 2, 3, 4, 5, 6, 7, 8, 9, 10

## ULN2003AN
designator IC?, comment DRIVER ARRAY
footprint DIL16
pins: 1 I1, 2 I2, 3 I3, 4 I4, 5 I5, 6 I6, 7 I7, 8 GND (power), 9 CD+, 10 O7 (oc), 11 O6 (oc), 12 O5 (oc), 13 O4 (oc), 14 O3 (oc), 15 O2 (oc), 16 O1 (oc)

## vl53l0xv2
designator *
footprint VL53L0X V2 (ToF sensor)
footprint VL53L0X V2 90 (ToF sensor)
pins: 1 VCC (power), 2 GND (power), 3 SCL (power), 4 SDA (power), 5 GPIO1 (power), 6 XSHUT (power)

## WS2812B
designator LED?
GateName_1: G$1; SymbolName_1: WS2812B; LibraryName: WS2812; DeviceSetName: WS2812B; Package: WS2812B
footprint WS2812B
pins: 1 VDD, 2 DO, 3 VSS, 4 DI

## XT-60 Connector
designator *  Supplier Part Number 1: XT-60 Connector
Manufacturer: POLOLU; Manufacturer Part Number: XT60 YELLOW; Unit: pcs; SuppliedAmount: 0; MinAmount: 1; Type of robotics accessories: power connector; Maximum current: 65A; Information: Product is not a working device, but only component; Supplier 1: TME; Category: Power Supply Modules; Stock 1: 29; Pricing 1: 1=2.08, 10=1.95 (USD); Weight: 7.267; Multiples: 1; Number of pins: 2; Colour: yellow; Price Type: NET; ComponentLink1URL: http://static.tme.eu/products_pics/8/b/5/8b5040a8a5baf3e0e67386c2e3a9b903/913.jpg; ComponentLink1Description: http://static.tme.eu/products_pics/8/b/5/8b5040a8a5baf3e0e67386c2e3a9b903/913.jpg
footprint 2 (Battery Connector)
pins: 1 + (power), 2 - (power)